# Altium integrated library B_S-1WR3.IntLib: 1 symbol
Pins are listed as number, name and electrical type; pins without a type are passive.

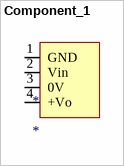
[diagram p0: symbol Component_1]

## Component_1
designator *
pins: 1 GND, 2 Vin, 3 0V, 4 +Vo